# EAGLE library part TPS565208 (library TPSxxxxxx-buck-regulators)
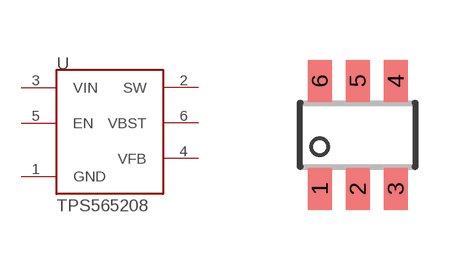
[diagram p0: symbol with the pads of SOT23-6; footprint SOT23-6]

Designator prefix -

## TPS565208  [SOT23-6]
1  GND
2  SW
3  VIN
4  VFB
5  EN
6  VBST

## Footprint SOT23-6 (pad centres in mm)
SOT-23-6 (TSOP-6) Plastic Small Outline - 6-Lead Package
smd 0.6 x 1.05: 1 -0.95,-1.35; 2 0,-1.35; 3 0.95,-1.35; 4 0.95,1.35; 5 0,1.35; 6 -0.95,1.35